# Altium footprint library INF-PG-TDSON-8-FL.PcbLib: 1 footprints
Each footprint in its own frame and in the unit in brackets; x right, y up, seen from the top. Pads: shape width x height; smd on the part's side, far side on the other; paste and mask are expansions set on the pad; w line width, h text height; cw(c..) or ccw(c..) is an arc to the next point about the centre after c.
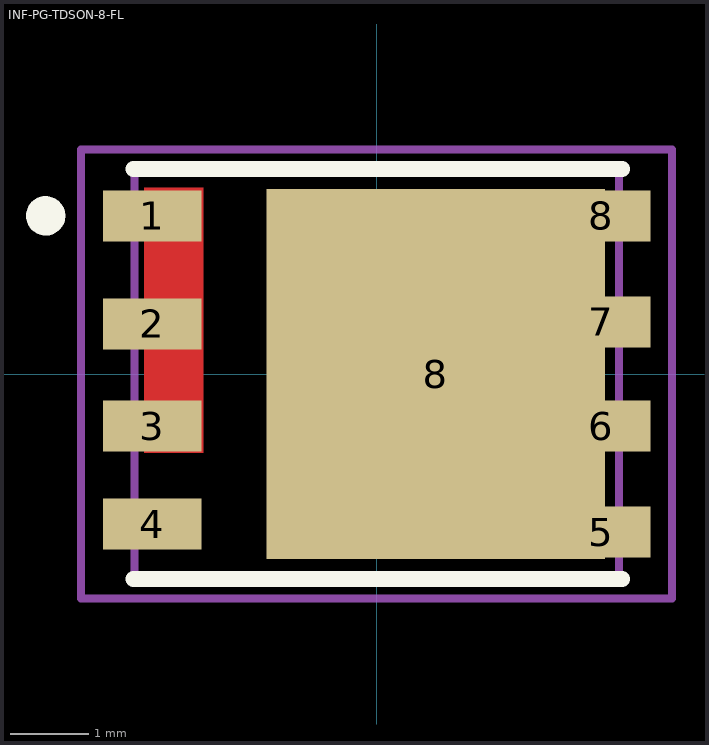
[diagram p0: the footprint, top view; thin cyan lines are the x and y axes]

## INF-PG-TDSON-8-FL [mm]
pads (9):
  rect 1.25x0.65 smd: 1(-2.85,2.007) 2(-2.85,0.635) 3(-2.85,-0.66) 4(-2.85,-1.905) 5(2.85,-2.007) 6(2.85,-0.66) 7(2.85,0.66) 8(2.85,2.007)
  rect 4.295x4.7 smd paste-3: 8(0.75,0)
Signal:
  region: -2.2,-1 -2.95,-1 -2.95,2.365 -2.2,2.365
Top Overlay:
  circle w0.25: c-4.2,2.007 r0.125
  lines w0.2: -3.084,-2.6 3.116,-2.6 ; -3.084,2.6 3.116,2.6
Top Paste:
  region: -2.2,-1 -2.95,-1 -2.95,2.365 -2.2,2.365
  region: 2.884,-2.35 -1.65,-2.35 -1.65,2.35 2.884,2.35
Top Solder:
  region: -2.2,-1 -2.95,-1 -2.95,2.365 -2.2,2.365
  region: 2.884,-2.35 -1.65,-2.35 -1.65,2.35 2.884,2.35
Assembly Top:
  lines w0.1: -0.5,0 0.5,0 ; 0,-0.5 0,0.5 ; -3.075,-2.575 -3.075,2.575 3.075,2.575 3.075,-2.575 -3.075,-2.575
Top Courtyard:
  lines w0.1: -3.75,-2.85 3.75,-2.85 3.75,2.85 -3.75,2.85 -3.75,-2.85
3D body "step_temp.STEP": height 1.2, standoff 0, extent -3.025,-2.608 3,2.608